# Altium schematic symbol library SPBT2632.SchLib: 1 symbol
Pins are listed as number, name and electrical type; pins without a type are passive.

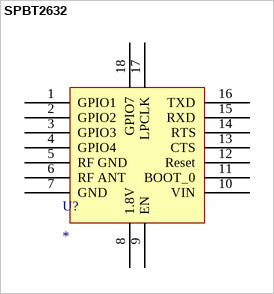
[diagram p0: symbol SPBT2632]

## SPBT2632
designator U?
SPBT2632
pins: 1 GPIO1, 2 GPIO2, 3 GPIO3, 4 GPIO4, 5 RF GND, 6 RF ANT, 7 GND, 8 1.8V, 9 EN, 10 VIN, 11 BOOT_0, 12 Reset, 13 CTS, 14 RTS, 15 RXD, 16 TXD, 17 LPCLK, 18 GPIO7